# Altium footprint library PCB - DIODES - BOURNS PTSV-xxxC-H.PCBLIB: 1 footprints
Each footprint in its own frame and in the unit in brackets; x right, y up, seen from the top. Pads: shape width x height; smd on the part's side, far side on the other; paste and mask are expansions set on the pad; w line width, h text height; cw(c..) or ccw(c..) is an arc to the next point about the centre after c.
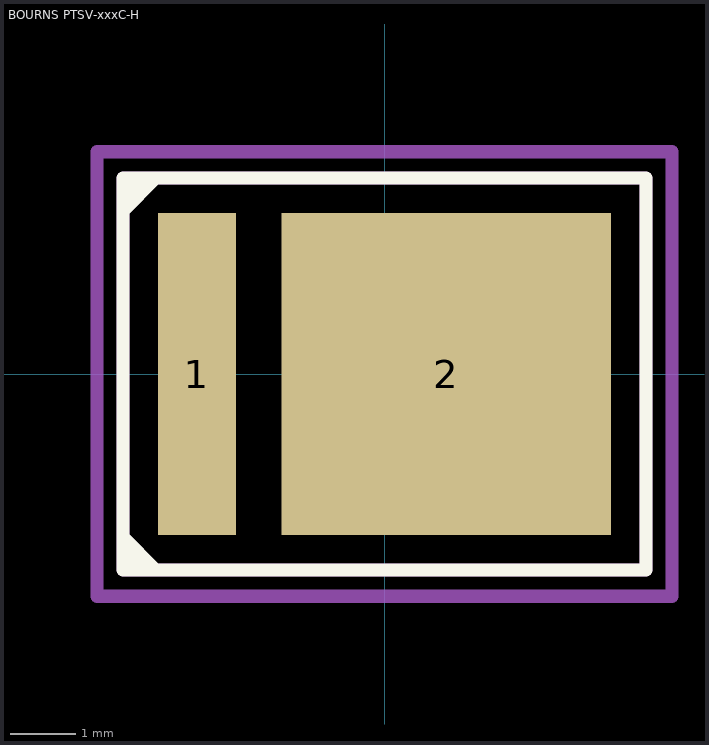
[diagram p0: the footprint, top view; thin cyan lines are the x and y axes]

## BOURNS PTSV-xxxC-H [mm] "High current TVS Diodes"
height 2.6
pads (2):
  rect 1.19x4.93 smd: 1(-2.87,0)
  rect 5.04x4.93 smd: 2(0.945,0)
Top Overlay:
  region: -4,3 -3.5,3 -4,2.5
  region: -4,-2.5 -3.5,-3 -4,-3
  lines w0.2: -4,-2.5 -3.5,-3 ; -4,2.5 -3.5,3 ; -4,-3 -4,3 4,3 4,-3 -4,-3
Top Assembly:
  lines w0.2: -4,-3 4,-3 4,3 -4,3 -4,-3
Top Courtyard (Mech15):
  lines w0.2: -0.5,0 0.5,0 ; 0,-0.5 0,0.5 ; -4.4,-3.4 4.4,-3.4 4.4,3.4 -4.4,3.4 -4.4,-3.4
3D body: height 2.6, standoff 0, extent -4,-3 4,3